# EAGLE library part KT0803 (library Miszczo)
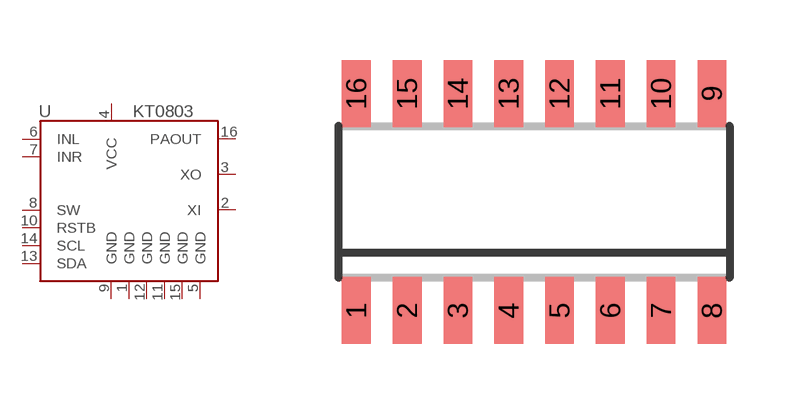
[diagram p6: symbol with the pads of SO16D; footprint SO16D]

Designator prefix U

## KT0803  [SO16D]
1  GND
2  XI
3  XO
4  VCC
5  GND
6  INL
7  INR
8  SW
9  GND
10  RSTB
11  GND
12  GND
13  SDA
14  SCL
15  GND
16  PAOUT

## Footprint SO16D (pad centres in mm)
Platic Small Outline D R-PDSO-G16 Source: www.ti.com .. cd74hct191.pdf
smd 0.72 x 1.68: 1 -4.445,-2.715; 2 -3.175,-2.715; 3 -1.905,-2.715; 4 -0.635,-2.715; 5 0.635,-2.715; 6 1.905,-2.715; 7 3.175,-2.715; 8 4.445,-2.715; 9 4.445,2.715; 10 3.175,2.715; 11 1.905,2.715; 12 0.635,2.715; 13 -0.635,2.715; 14 -1.905,2.715; 15 -3.175,2.715; 16 -4.445,2.715